# EAGLE library part LM2663 (library jpnewman)
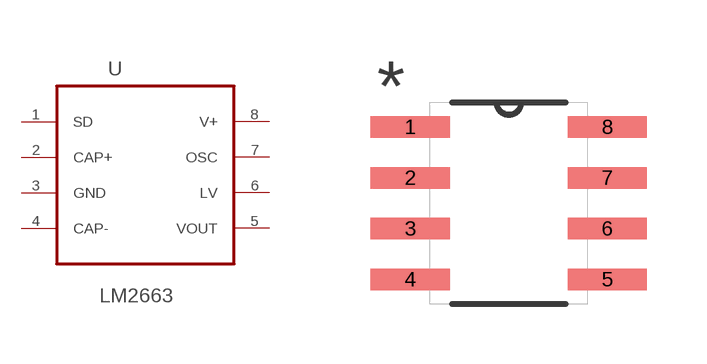
[diagram p15: symbol with the pads of SOIC127P600X175-8N; footprint SOIC127P600X175-8N]

Designator prefix -

## LM2663  [SOIC127P600X175-8N]
1  SD  pwr
2  CAP+  in
3  GND  in
4  CAP-  pas
5  VOUT  out
6  LV  in
7  OSC  in
8  V+  out

## Footprint SOIC127P600X175-8N (pad centres in mm)
smd 1.981 x 0.533: 1 -2.464,1.905; 2 -2.464,0.635; 3 -2.464,-0.635; 4 -2.464,-1.905; 5 2.464,-1.905; 6 2.464,-0.635; 7 2.464,0.635; 8 2.464,1.905